# Altium footprint library nixie-tubes.PCBLIB: 13 footprints
Each footprint in its own frame and in the unit in brackets; x right, y up, seen from the top. Pads: shape width x height; smd on the part's side, far side on the other; paste and mask are expansions set on the pad; w line width, h text height; cw(c..) or ccw(c..) is an arc to the next point about the centre after c.
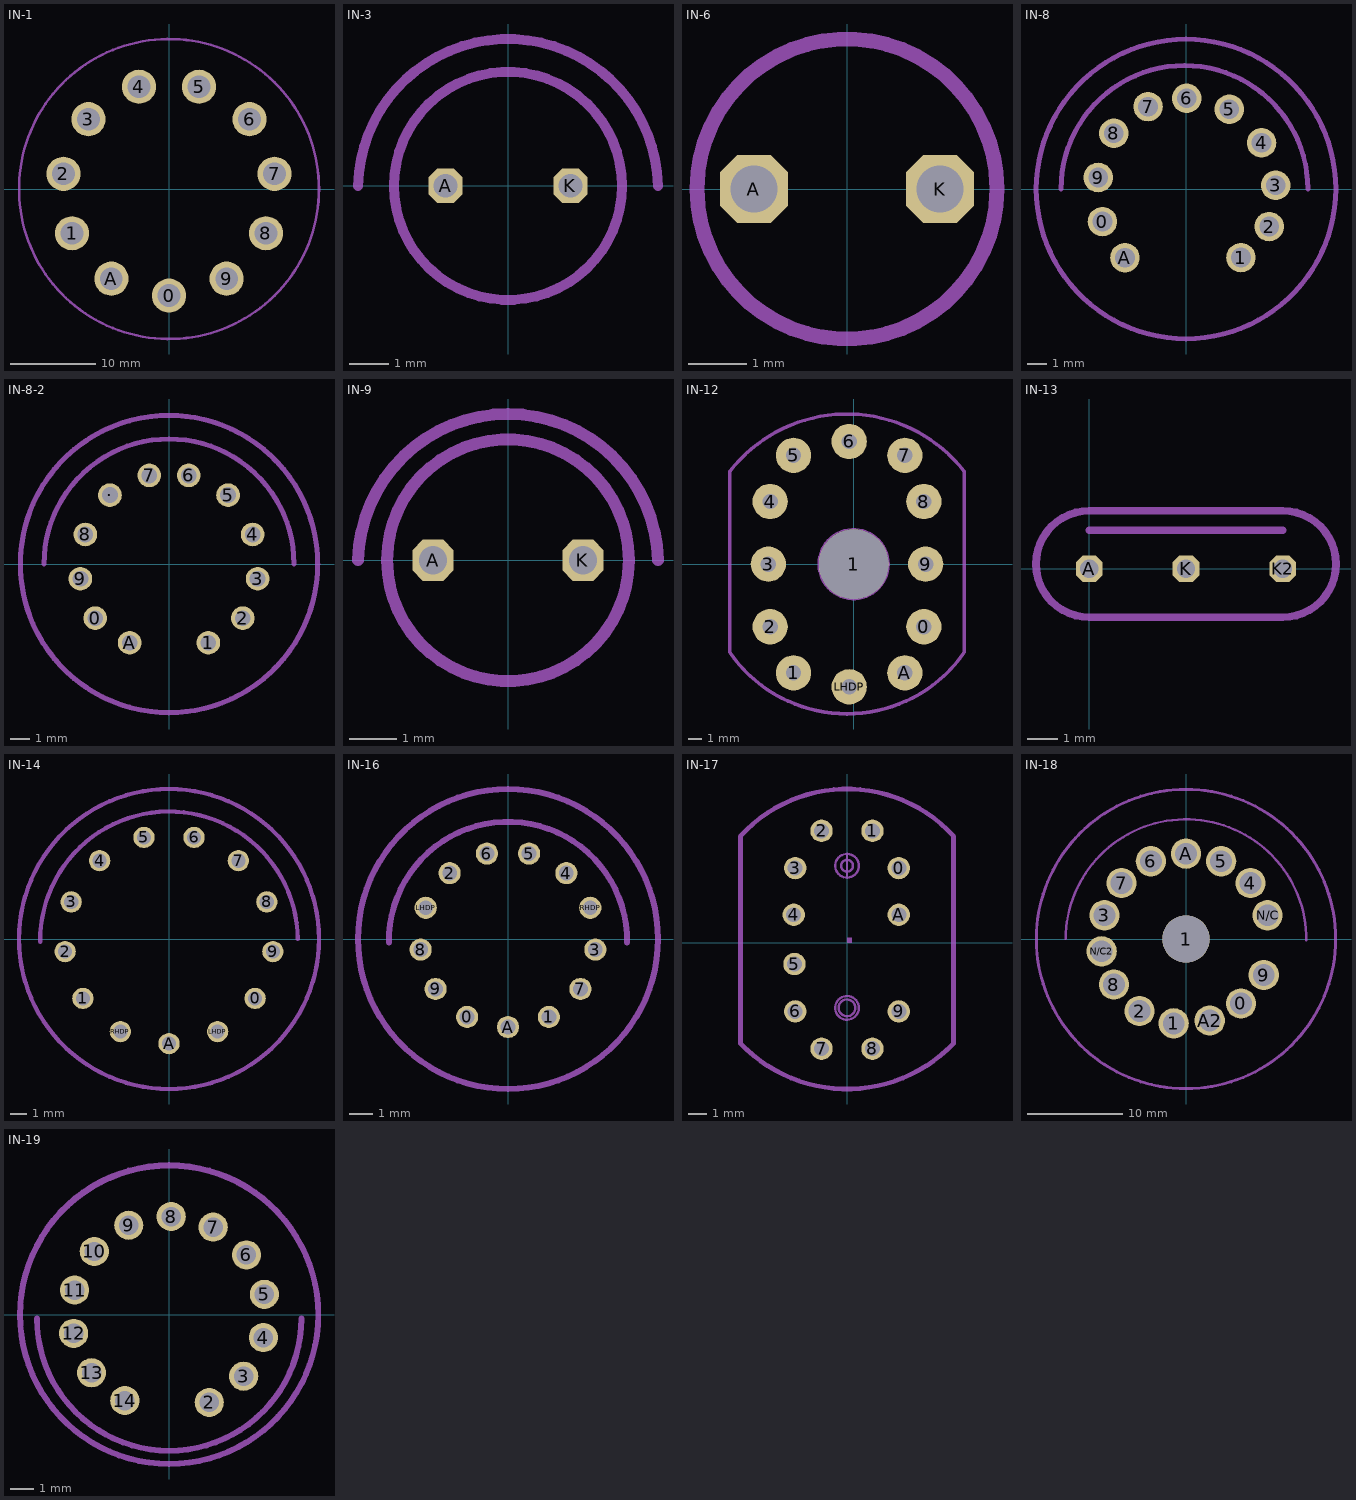
[diagram p0: the footprints below, top view; thin cyan lines are the x and y axes]

## IN-1 [mil]
pads (11):
  round 157.5 / inner round 60 / far side round 157.5 hole 105: 0(0,-491.45) 1(-447.04,-204.16) 2(-486.45,69.94) 3(-371.41,321.83) 4(-138.46,471.54) 5(138.46,471.54) 6(371.41,321.83) 7(486.45,69.94) 8(447.04,-204.16) 9(265.7,-413.43) A(-265.7,-413.43)
Mechanical 22:
  circle w11.81: c0,0 r691.45

## IN-3 [mil]
pads (2):
  oct 34.3x34.3 / inner oct 60x60 / far side oct 34.3x34.3 hole 23.62: A(-62.5,0) K(62.5,0)
Mechanical 22:
  circle w10: c0,0 r114.05
  lines w10: -150,0 cw(c0,-3.13) 150,0

## IN-6 [mil]
pads (2):
  oct 45.75x45.75 / inner oct 60x60 / far side oct 45.75x45.75 hole 31.5: A(-62.5,0) K(62.5,0)
Mechanical 22:
  circle w10: c0,0 r100.78

## IN-8 [mm]
pads (11):
  round 1.5 / inner round 1.524 / far side round 1.5 hole 1: 0(-4.244,-1.655) 1(2.792,-3.483) 2(4.222,-1.907) 3(4.556,0.189) 4(3.837,2.348) 5(2.203,4.052) 6(0.034,4.603) 7(-1.928,4.186) 8(-3.666,2.83) 9(-4.46,0.584) A(-3.101,-3.49)
Mechanical 22:
  circle w0.127: c0,0 r7.62
  circle w0.254: c0,0 r7.608
  lines w0.127: -6.358,0.087 cw(c-0.107,0.069) 6.145,0.052
  lines w0.254: -6.35,0 cw(c-0.079,0) 6.191,0

## IN-8-2 [mil]
pads (12):
  round 47.25 / inner round 60 / far side round 47.25 hole 31.5: 0(-147.64,-108.27) 1(78.74,-157.48) 2(147.64,-108.27) 3(177.17,-29.53) 4(167.32,59.06) 5(118.11,137.8) 6(39.37,177.17) 7(-39.37,177.17) 8(-167.32,59.06) 9(-177.17,-29.53) .(-118.11,137.8) A(-78.74,-157.48)
Mechanical 22:
  circle w10: c0,0 r297.12
  circle w5: c0,0 r300
  lines w5: -250,0 cw(c0,0) 250,0
  lines w10: -250,0 cw(c0,0) 250,0
3D body: height 1692.91, standoff 118.11, extent -374.01,-374.01 374.02,374.02

## IN-9 [mil]
pads (2):
  oct 34.3x34.3 / inner oct 60x60 / far side oct 34.3x34.3 hole 23.62: A(-62.5,0) K(62.5,0)
Mechanical 22:
  circle w10: c0,0 r100.78
  lines w10: -125,0 cw(c0,-3.13) 125,0

## IN-12 [mm]
pads (13):
  round 2.54 / inner round 1.524 / far side round 2.54 hole 1.1: 0(5.047,-4.5) 1(-4.317,-7.818) 2(-6,-4.5) 3(-6.127,0) 4(-6,4.5) 5(-4.317,7.818) 6(-0.318,8.818) 7(3.682,7.818) 8(5.047,4.5) 9(5.174,0) A(3.682,-7.818) LHDP(-0.318,-8.818)
  round 5 hole 5 unplated: 1(0,0)
Mechanical 22:
  circle w0.127: c0,0 r2.54
  lines w0.127: -8.89,-6.35 ccw(c-0.476,-0.34) 7.937,-6.35 ; -8.89,6.667 cw(c-0.476,0.058) 7.937,6.667
  lines w0.254: -8.89,-6.35 ccw(c-0.476,-0.556) 7.938,-6.35 7.938,6.667 ccw(c-0.476,0.141) -8.89,6.667 -8.89,-6.191 -8.89,-6.35

## IN-13 [mm]
pads (3):
  oct 0.871x0.871 / inner oct 1.524x1.524 / far side oct 0.871x0.871 hole 0.6: A(0,0) K(3.175,0) K2(6.35,0)
Mechanical 22:
  lines w0.127: 0,-1.587 cw(c0,0.159) 0,1.905 0.318,1.905 ; 5.715,1.905 6.35,1.905 cw(c6.35,0.159) 6.35,-1.587
  lines w0.254: 0,1.27 6.35,1.27 ; -1.746,0.159 cw(c0,0.159) 0,1.905 0.318,1.905 5.715,1.905 6.35,1.905 cw(c6.35,0.159) 8.096,0.159 cw(c6.35,0.159) 6.35,-1.587 0,-1.587 cw(c0,0.159) -1.746,0.159

## IN-14 [mm]
pads (13):
  round 1.26 / inner round 1.524 / far side round 1.26 hole 0.84: 0(5.094,-3.516) 1(-5.094,-3.516) 2(-6.145,-0.746) 3(-5.788,2.195) 4(-4.105,4.633) 5(-1.481,6.01) 6(1.481,6.01) 7(4.105,4.633) 8(5.788,2.195) 9(6.145,-0.746) A(0,-6.19) LHDP(2.877,-5.481) RHDP(-2.877,-5.481)
Mechanical 22:
  circle w0.254: c0,0 r8.875
  lines w0.254: -7.62,-0.159 cw(c0,-0.079) 7.62,0

## IN-16 [mm]
pads (13):
  round 0.945 / inner round 1.524 / far side round 0.945 hole 0.63: 0(-1.745,-3.325) 1(1.745,-3.325) 2(-2.49,2.81) 3(3.727,-0.453) 4(2.49,2.81) 5(0.898,3.645) 6(-0.898,3.645) 7(3.09,-2.133) 8(-3.727,-0.453) 9(-3.09,-2.133) A(0,-3.755) LHDP(-3.511,1.331) RHDP(3.511,1.331)
Mechanical 22:
  circle w0.254: c0,0 r6.399
  lines w0.254: -5.08,-0.159 cw(c0,-0.079) 5.08,-0.159

## IN-17 [mil]
pads (11):
  round 47.25 / inner round 60 / far side round 47.25 hole 31.5: 0(109.35,157.48) 1(53.74,236.22) 2(-53.74,236.22) 3(-109.35,157.48) 4(-112.5,59.06) 5(-110.93,-44.98) 6(-109.35,-144.98) 7(-53.74,-223.72) 8(53.74,-223.72) 9(109.35,-144.98) A(109.35,59.06)
Mechanical 22:
  lines w10: -225,-212.5 -225,225 ; -225,-212.5 ccw(c0,2.27) 225,-212.5 225,225 ccw(c0,20.48) -225,225 ; -225,-212.5 -225,225
Mechanical 32:
  circle w5: c0,-137.5 r17.68
  circle w5: c0,162.5 r12.5
  circle w5: c0,162.5 r25
  circle w5: c0,-137.5 r25
  region: 0,0 10,0 10,10 0,10
  region: 0,0 10,0 10,10 0,10
  region: 0,0 10,0 10,10 0,10
  lines w5: 0,137.5 0,187.5

## IN-18 [mm]
pads (15):
  round 3.2 / inner round 1.524 / far side round 3.2 hole 2.3: 0(5.8,-6.8) 1(-1.3,-8.9) 2(-4.9,-7.6) 3(-8.6,2.5) 4(6.8,5.9) 5(3.7,8.2) 6(-3.7,8.2) 7(-6.8,5.9) 8(-7.6,-4.8) 9(8.2,-3.8) A(0,9) A2(2.5,-8.6) N/C(8.6,2.5) N/C2(-8.9,-1.3)
  round 5 hole 5 unplated: 1(0,0)
Top Solder:
  circle w0.025: c0,0 r2.54
  circle w2.54: c0,0 r1.27
Bottom Solder:
  circle w2.54: c0,0 r1.27
Drill Guide:
  circle w0.025: c0,0 r2.54
Mechanical 22:
  circle w0.254: c0,0 r15.819
  circle w0.254: c0,0 r15.756
  lines w0.254: -12.7,0 cw(c0,-0.079) 12.7,-0.159

## IN-19 [mm]
pads (13):
  round 1.26 / inner round 1.524 / far side round 1.26 hole 0.84: 2(1.733,-3.786) 3(3.222,-2.652) 4(4.072,-0.985) 5(4.114,0.886) 6(3.34,2.59) 7(1.903,3.79) 8(0.089,4.247) 9(-1.745,3.872) 10(-3.234,2.738) 11(-4.084,1.07) 12(-4.126,-0.801) 13(-3.352,-2.505) 14(-1.915,-3.704)
Mechanical 22:
  circle w0.16: c-0.006,0.043 r6.476
  circle w0.254: c0,0 r6.447
  lines w0.16: -5.715,-0.159 ccw(c0,-0.159) 5.715,-0.159
  lines w0.254: -5.715,-0.159 ccw(c0,-0.159) 5.715,-0.159